# Altium footprint library SN65LVDS.PcbLib: 2 footprints
Each footprint in its own frame and in the unit in brackets; x right, y up, seen from the top. Pads: shape width x height; smd on the part's side, far side on the other; paste and mask are expansions set on the pad; w line width, h text height; cw(c..) or ccw(c..) is an arc to the next point about the centre after c.
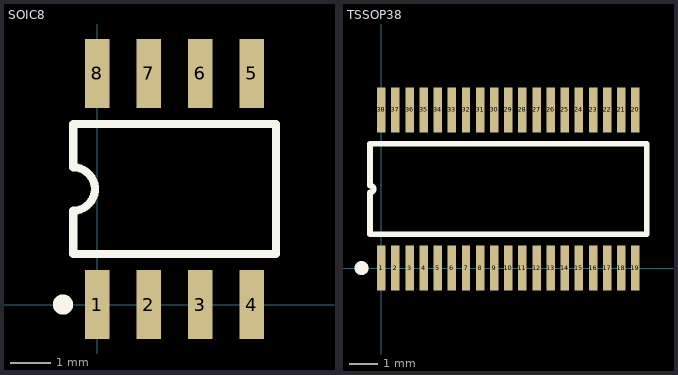
[diagram p0: the footprints below, top view; thin cyan lines are the x and y axes]

## SOIC8 [mm] "SN65LVDS - Differential Drivers and Receivers"
pads (8):
  rect 0.6x1.7 smd: 1(0,0) 2(1.27,0) 3(2.54,0) 4(3.81,0) 5(3.81,5.7) 6(2.54,5.7) 7(1.27,5.7) 8(0,5.7)
Top Overlay:
  circle w0.25: c-0.85,0 r0.125
  lines w0.2: -0.595,2.317 ccw(c-0.595,2.85) -0.595,3.383 -0.595,4.45 4.405,4.45 4.405,1.25 -0.595,1.25 -0.595,2.317

## TSSOP38 [mm] "SN65LVDS - Differential Drivers and Receivers"
pads (38):
  rect 0.3x1.6 smd: 1(0,0) 2(0.5,0) 3(1,0) 4(1.5,0) 5(2,0) 6(2.5,0) 7(3,0) 8(3.5,0) 9(4,0) 10(4.5,0) 11(5,0) 12(5.5,0) 13(6,0) 14(6.5,0) 15(7,0) 16(7.5,0) 17(8,0) 18(8.5,0) 19(9,0) 20(9,5.6) 21(8.5,5.6) 22(8,5.6) 23(7.5,5.6) 24(7,5.6) 25(6.5,5.6) 26(6,5.6) 27(5.5,5.6) 28(5,5.6) 29(4.5,5.6) 30(4,5.6) 31(3.5,5.6) 32(3,5.6) 33(2.5,5.6) 34(2,5.6) 35(1.5,5.6) 36(1,5.6) 37(0.5,5.6) 38(0,5.6)
Top Overlay:
  circle w0.25: c-0.7,0 r0.125
  lines w0.2: -0.4,1.2 -0.4,2.675 ccw(c-0.4,2.8) -0.4,2.925 -0.4,4.4 9.4,4.4 9.4,1.2 -0.4,1.2